# Altium footprint library 屏幕.PcbLib: 7 footprints
Each footprint in its own frame and in the unit in brackets; x right, y up, seen from the top. Pads: shape width x height; smd on the part's side, far side on the other; paste and mask are expansions set on the pad; w line width, h text height; cw(c..) or ccw(c..) is an arc to the next point about the centre after c.
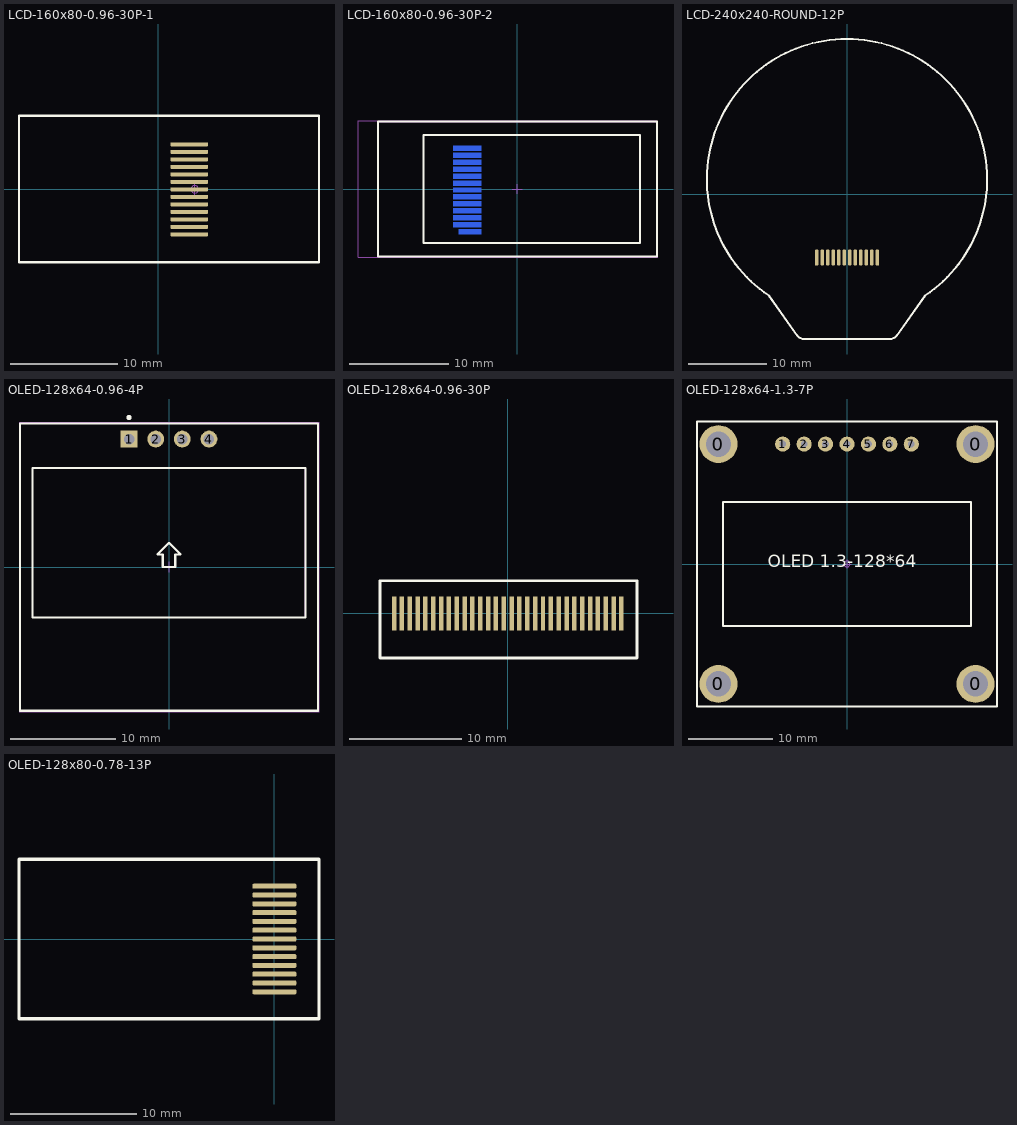
[diagram p0: the footprints below, top view; thin cyan lines are the x and y axes]

## LCD-160x80-0.96-30P-1 [mm]
pads (13):
  rrect50% 3.5x0.38 smd: 1(2.9,4.2) 2(2.9,3.5) 3(2.9,2.8) 4(2.9,2.1) 5(2.9,1.4) 6(2.9,0.7) 7(2.9,0) 8(2.9,-0.7) 9(2.9,-1.4) 10(2.9,-2.1) 11(2.9,-2.8) 12(2.9,-3.5) 13(2.9,-4.2)
Top Overlay:
  lines w0.203: -13,-6.8 15,-6.8 15,6.858 -13,6.858 -13,-6.8
Mechanical 15:
  circle w0.05: c3.4,0 r0.35
  lines w0.05: 2.9,0 3.9,0 ; 3.4,-0.5 3.4,0.5
3D body "0.96lcd.step": height 1.65, standoff 0, extent -12.959,-6.75 15.636,6.75

## LCD-160x80-0.96-30P-2 [mm]
height 3
pads (13):
  rect 2.25x0.5 smd far side: 1(-4.775,-4.3)
  rect 2.8x0.5 smd far side: 2(-5.05,-3.6) 3(-5.05,-2.9) 4(-5.05,-2.2) 5(-5.05,-1.5) 6(-5.05,-0.8) 7(-5.05,-0.1) 8(-5.05,0.6) 9(-5.05,1.3) 10(-5.05,2) 11(-5.05,2.7) 12(-5.05,3.4) 13(-5.05,4.1)
Top Overlay:
  lines w0.2: -14,-6.75 14,-6.75 14,6.75 -14,6.75 -14,-6.75 ; -9.417,-5.4 12.283,-5.4 12.283,5.4 -9.417,5.4 -9.417,-5.4
Bottom Overlay:
  circle w0.25: c-3,-4.3 r0.125
Mechanical 13:
  lines w0.1: -13.983,-6.744 13.983,-6.744 13.983,6.744 -13.983,6.744 -13.983,-6.744 ; -9.417,-5.4 12.283,-5.4 12.283,5.4 -9.417,5.4 -9.417,-5.4
Mechanical 15:
  lines w0.05: -16,-6.85 14.1,-6.85 14.1,6.85 -16,6.85 -16,-6.85
  lines w0.1: -0.5,0 0.5,0 ; 0,-0.5 0,0.5
3D body "0.96 - IPS LCD - No Glass - Reverse Mount.stp": height 2.77, standoff -0.68, extent -16.004,-6.744 13.983,6.744

## LCD-240x240-ROUND-12P [mm]
height 0.8
pads (12):
  rrect50% 0.4x2.032 smd: 1(3.85,-8.066) 2(3.15,-8.066) 3(2.45,-8.066) 4(1.75,-8.066) 5(1.05,-8.066) 6(0.35,-8.066) 7(-0.35,-8.066) 8(-1.05,-8.066) 9(-1.75,-8.066) 10(-2.45,-8.066) 11(-3.15,-8.066) 12(-3.85,-8.066)
Top Overlay:
  lines w0.254: -9.911,-12.901 cw(c0,1.885) 9.911,-12.901 6.305,-17.985 cw(c5.473,-17.396) 5.473,-18.415 -5.473,-18.415 cw(c-5.473,-17.396) -6.305,-17.985 -9.911,-12.901
3D body "scr.step": height -0.5, standoff -2.05, extent -17.799,-18.415 17.799,19.685

## OLED-128x64-0.96-4P [mm]
height 2.2
pads (4):
  rect 1.6x1.6 hole 1: 1(-3.81,12.2)
  round 1.6 hole 1: 2(-1.27,12.2) 3(1.27,12.2) 4(3.81,12.2)
Top Overlay:
  circle w0.25: c-3.81,14.25 r0.125
  lines w0.2: -14.2,-13.7 -14.2,13.7 14.2,13.7 14.2,-13.7 -14.2,-13.7 ; -13,-4.8 13,-4.8 13,9.45 -13,9.45 -13,-4.8 ; -1.1,1.2 -0.6,1.2 -0.6,0 0.6,0 0.6,1.2 1.1,1.2 0,2.3 -1.1,1.2
Mechanical 13:
  lines w0.1: -14.2,-13.7 -14.2,13.7 14.2,13.7 14.2,-13.7 -14.2,-13.7 ; -13,-4.8 13,-4.8 13,9.45 -13,9.45 -13,-4.8
Mechanical 15:
  lines w0.05: -14.3,-13.8 -14.3,13.8 14.3,13.8 14.3,-13.8 -14.3,-13.8
  lines w0.1: -0.5,0 0.5,0 ; 0,-0.5 0,0.5
3D body "OLED0.96-I2C-MODULE.STEP": height 6, standoff -5, extent -14.2,-13.7 14.2,13.7

## OLED-128x64-0.96-30P [mm]
pads (30):
  rect 0.4x3 smd: 1(-10.15,0) 2(-9.45,0) 3(-8.75,0) 4(-8.05,0) 5(-7.35,0) 6(-6.65,0) 7(-5.95,0) 8(-5.25,0) 9(-4.55,0) 10(-3.85,0) 11(-3.15,0) 12(-2.45,0) 13(-1.75,0) 14(-1.05,0) 15(-0.35,0) 16(0.35,0) 17(1.05,0) 18(1.75,0) 19(2.45,0) 20(3.15,0) 21(3.85,0) 22(4.55,0) 23(5.25,0) 24(5.95,0) 25(6.65,0) 26(7.35,0) 27(8.05,0) 28(8.75,0) 29(9.45,0) 30(10.15,0)
Top Overlay:
  lines w0.254: -11.395,-3.98 -11.395,2.92 11.53,2.92 11.53,-3.98 -11.395,-3.98
Bottom Overlay:
  lines w0.254: 1.6,8.05 6.6,8.05 ; 4.1,5.55 4.1,10.55 ; -13.37,-6.75 13.42,-6.75 13.42,15.59 -13.37,15.59 -13.37,-6.75 ; -10.71,-3.15 -10.71,13.36 -10.69,13.38 -10,13.38 -9.15,13.38 10.27,13.38 10.27,-3.15 -10.71,-3.15
3D body "096OLED.step": height 3.72, standoff -0.12, extent -13.34,-6.64 13.36,15.576

## OLED-128x64-1.3-7P [mm]
pads (11):
  round 4.5 hole 3: 0(-15.24,-14.21) 0(-15.24,14.21) 0(15.24,-14.21) 0(15.24,14.21)
  round 1.8 hole 0.8: 1(-7.62,14.21) 2(-5.08,14.21) 3(-2.54,14.21) 4(0,14.21) 5(2.54,14.21) 6(5.08,14.21) 7(7.62,14.21)
Top Overlay:
  lines w0.2: -17.78,-16.891 -17.78,16.891 17.78,16.891 17.78,-16.891 -17.78,-16.891 ; -14.7,-7.35 14.7,-7.35 14.7,7.35 -14.7,7.35 -14.7,-7.35
  text "OLED 1.3-128*64" at -9.398,-0.889 h2.54
Mechanical 15:
  circle w0.05: c0,0 r0.35
  lines w0.05: -0.5,0 0.5,0 ; 0,-0.5 0,0.5
3D body "OLED 1.3-12864_7pin.STEP": height 5.5, standoff -6.02, extent -17.7,-16.75 17.7,16.75

## OLED-128x80-0.78-13P [mm]
height 4.3
pads (13):
  rrect50% 3.5x0.4 smd: 1(0,-4.2) 2(0,-3.5) 3(0,-2.8) 4(0,-2.1) 5(0,-1.4) 6(0,-0.7) 7(0,0) 8(0,0.7) 9(0,1.4) 10(0,2.1) 11(0,2.8) 12(0,3.5) 13(0,4.2)
Top Overlay:
  lines w0.254: -20.32,-6.35 3.556,-6.35 3.556,6.35 -20.32,6.35 -20.32,-6.35
3D body "Ctrl-DualBoard-Down v1.step": height 1.55, standoff 0.09, extent -20.182,-6.25 7.54,6.25